# Altium schematic symbol library C_4.7uF_GRM21BB31E475K.SchLib: 1 symbol
Pins are listed as number, name and electrical type; pins without a type are passive.

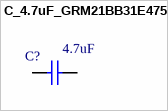
[diagram p0: symbol C_4.7uF_GRM21BB31E475K]

## C_4.7uF_GRM21BB31E475K
designator C?  (value not drawn)
footprint JIS2012_EIA0805_GRM21BB31E475K (Chip Capacitor, 2-Leads, Body 2.00x1.25mm, IPC Medium Density)
pins: 1, 2
text: 4.7uF